# Altium schematic symbol library MB0040A.01.A.3.SchLib: 1 symbol
Pins are listed as number, name and electrical type; pins without a type are passive.

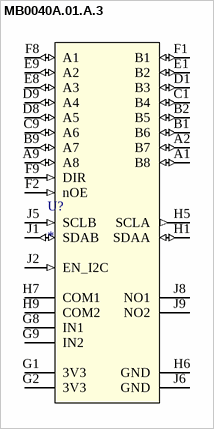
[diagram p0: symbol MB0040A.01.A.3]

## MB0040A.01.A.3
designator U?
pins: A1 B8 (io), A2 B7 (io), A9 A8 (io), B1 B6 (io), B2 B5 (io), B9 A7 (io), C1 B4 (io), C9 A6 (io), D1 B3 (io), D8 A5 (io), D9 A4 (io), E1 B2 (io), E8 A3 (io), E9 A2 (io), F1 B1 (io), F2 nOE (in), F8 A1 (io), F9 DIR (in), G1 3V3 (power), G2 3V3 (power), G8 IN1 (power), G9 IN2 (power), H1 SDAA (io), H5 SCLA (out), H6 GND (power), H7 COM1 (power), H9 COM2 (power), J1 SDAB (io), J2 EN_I2C (in), J5 SCLB (in), J6 GND (power), J8 NO1 (power), J9 NO2 (power)